# EAGLE library part DS1307 (library U-Time)
DS1307 [MAXIIM,DS1307Z+] RTC RAM 5V I2C 8SOIC
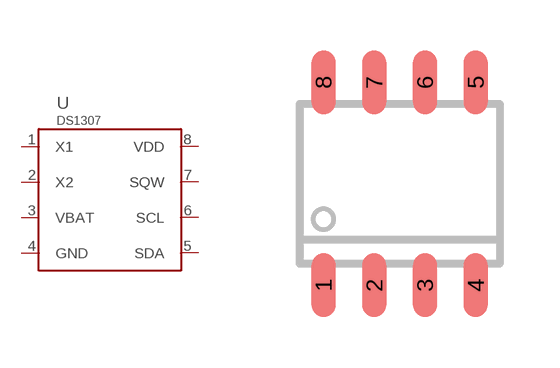
[diagram p1: symbol with the pads of SOIC8; footprint SOIC8]

Designator prefix U

## DS1307Z+  [SOIC8]
1  X1  in
2  X2
3  VBAT  pwr
4  GND  pwr
5  SDA
6  SCL  in
7  SQW  out
8  VDD  pwr

## Footprint SOIC8 (pad centres in mm)
8POS Standard SMALLl OUTLINE Package (SO/SOIC) Narrow Body
smd 0.6 x 1.6: 1 -1.905,-2.54; 2 -0.635,-2.54; 3 0.635,-2.54; 4 1.905,-2.54; 5 1.905,2.54; 6 0.635,2.54; 7 -0.635,2.54; 8 -1.905,2.54